# Altium schematic symbol library ZX62D-B-5PA8_30_.SchLib: 1 symbol
Pins are listed as number, name and electrical type; pins without a type are passive.

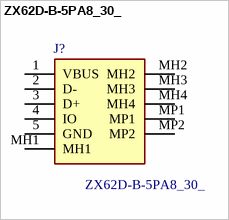
[diagram p0: symbol ZX62D-B-5PA8_30_]

## ZX62D-B-5PA8_30_
designator J?
USB - micro B USB 2.0 Receptacle Connector 5 Position Surface Mount, Right Angle; Through Hole; Manufacturer_Name: Hirose; Manufacturer_Part_Number: ZX62D-B-5PA8(30); Geometry.Height: 3mm; Mouser Part Number: 798-ZX62D-B-5PA830; Mouser Price/Stock: https://www.mouser.co.uk/ProductDetail/Hirose-Connector/ZX62D-B-5PA830?qs=1Nn7v2rJFSJs6IftS%252BmZAw%3D%3D; Datasheet Link: https://www.hirose.com/en/product/document?clcode=CL0242-0056-3-30&productname=ZX62D-B-5PA8(30)&series=ZX&documenttype=2DDrawing&lang=en&documentid=0001147958
footprint ZX62DB5PA830
pins: 1 VBUS, 2 D-, 3 D+, 4 IO, 5 GND, MH1, MH2, MH3, MH4, MP1, MP2